# Altium integrated library AP3428WT-7.IntLib: 1 symbol
Pins are listed as number, name and electrical type; pins without a type are passive.

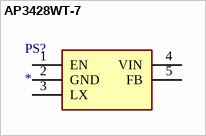
[diagram p0: symbol AP3428WT-7]

## AP3428WT-7
designator PS?
Power Supply; Manufacturer_Name: Diodes Incorporated; Manufacturer_Part_Number: AP3428WT-7; Datasheet Link: https://www.mouser.co.uk/datasheet/2/115/DIOD_S_A0012884518_1-2512899.pdf; Height: 0.9mm; Mouser Part Number: 621-AP3428WT-7; Mouser Price/Stock: https://www.mouser.co.uk/ProductDetail/Diodes-Incorporated/AP3428WT-7?qs=DRkmTr78QAQXj3PiuhD3kw%3D%3D
footprint SOT95P280X90-5N
pins: 1 EN, 2 GND, 3 LX, 4 VIN, 5 FB